# Altium schematic symbol library Bluepill.SchLib: 2 symbols
Pins are listed as number, name and electrical type; pins without a type are passive.

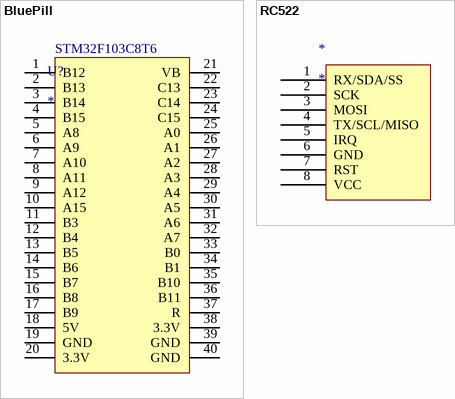
[diagram p0: symbols BluePill to RC522]

## BluePill
designator U?
footprint DIP40 - duplicate
pins: 1 B12, 2 B13, 3 B14, 4 B15, 5 A8, 6 A9, 7 A10, 8 A11, 9 A12, 10 A15, 11 B3, 12 B4, 13 B5, 14 B6, 15 B7, 16 B8, 17 B9, 18 5V, 19 GND, 20 3.3V, 21 VB, 22 C13, 23 C14, 24 C15, 25 A0, 26 A1, 27 A2, 28 A3, 29 A4, 30 A5, 31 A6, 32 A7, 33 B0, 34 B1, 35 B10, 36 B11, 37 R, 38 3.3V, 39 GND, 40 GND
text: STM32F103C8T6

## RC522
designator *
footprint PCBComponent_1 - duplicate
pins: 1 RX/SDA/SS, 2 SCK, 3 MOSI, 4 TX/SCL/MISO, 5 IRQ, 6 GND, 7 RST, 8 VCC